# EAGLE library part SCHALTER-2POLIG-UM (library 1A-meinLib)
Zweifachumschalter, DPDT
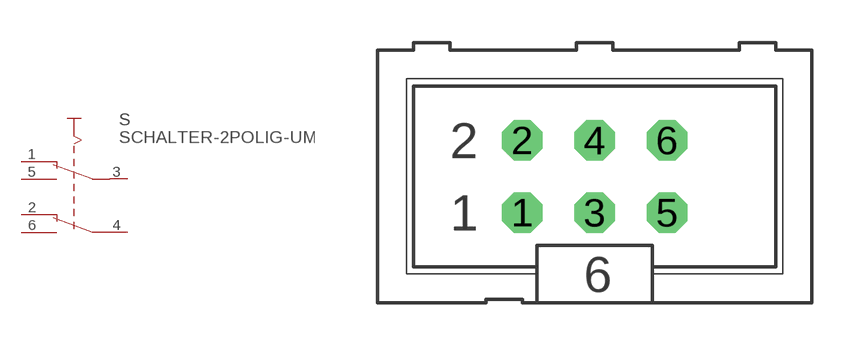
[diagram p105: symbol with the pads of ML6; footprint ML6]

Designator prefix S

## SCHALTER-2POLIG-UM  [ML6]
1  NC1  pas
2  NC2  pas
3  C1  pas
4  C2  pas
5  NO1  pas
6  NO2  pas

## Footprint ML6 (pad centres in mm)
HARTING
drill 0.914 octagon: 1 -2.54,-1.27; 2 -2.54,1.27; 3 0,-1.27; 4 0,1.27; 5 2.54,-1.27; 6 2.54,1.27